# EAGLE library part INA828 (library IC_Linear)
Precision Instrumentation Amplifier Reference Datasheet <https://www.ti.com/lit/ds/sbos792a/sbos792a.pdf?ts=1645724125783&ref_url=https%253A%252F%252Fwww.google.com%252F#:~:text=The%20INA828%20is%20a%20high,gain%20from%201%20to%201000.>
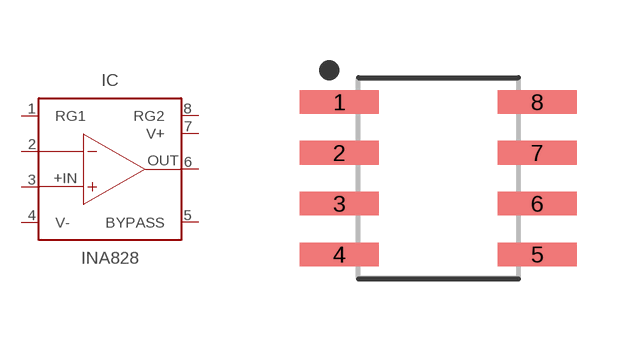
[diagram p14: symbol with the pads of SOIC127P600X175-8N; footprint SOIC127P600X175-8N]

Designator prefix IC

## INA828_SOIC (CATEGORY: Instrumentation Amplifiers; DESCRIPTION: Instrumentation Amplifiers 50-V Offset Low-Power; MANUFACTURER: Texas Instruments; MPN: INA828IDR; OPERATING_TEMP: -40°C ~ 125°C; PART_STATUS: Acctive; ROHS_COMPLIANT: ROHS3 Compliant; SERIES: INA828; SUB-CATEGORY: Amplifier ICs; TYPE: Instrumentation; VALUE: INA828)  [SOIC127P600X175-8N]
1  RG1  pas
2  -IN  in
3  +IN  in
4  V-
5  BYPASS  pas
6  OUT  out
7  V+
8  RG2  pas

## Footprint SOIC127P600X175-8N (pad centres in mm)
8-SOIC, 1.27 mm pitch, 6.00 mm span, 4.90 X 3.90 X 1.75 mm body 8-pin SOIC package with 1.27 mm pitch, 6.00 mm span with body size 4.90 X 3.90 X 1.75 mm
smd 1.969 x 0.592: 1 -2.474,1.905; 2 -2.474,0.635; 3 -2.474,-0.635; 4 -2.474,-1.905; 5 2.474,-1.905; 6 2.474,-0.635; 7 2.474,0.635; 8 2.474,1.905